# EAGLE library part LM2901 (library ic-fairchild)
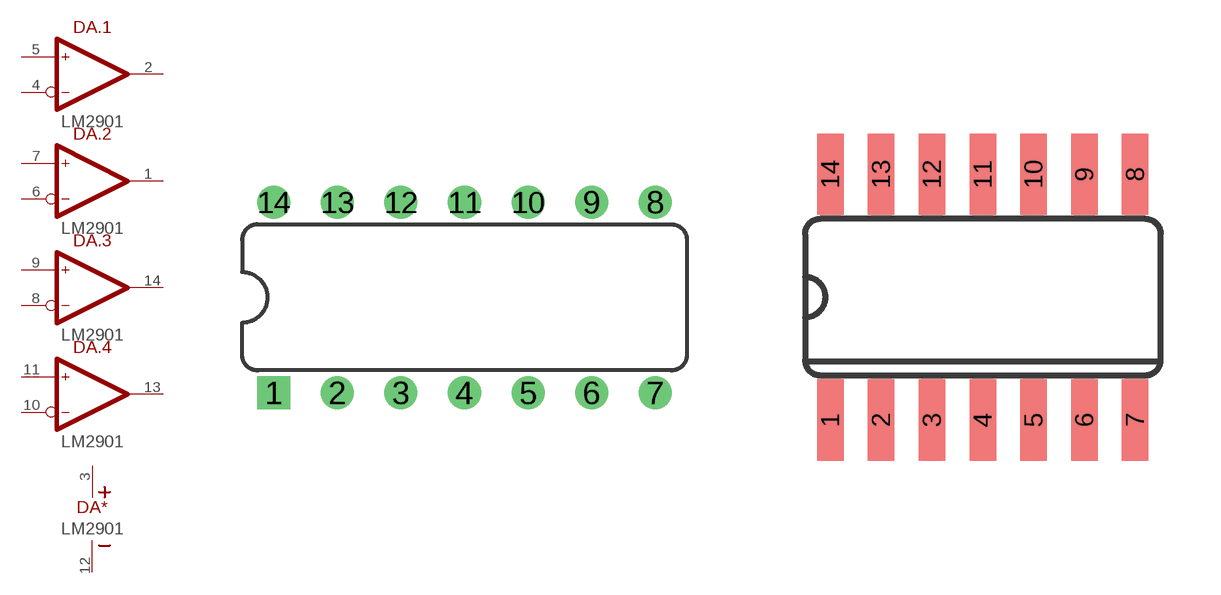
[diagram p1: symbol with the pads of DIP-14; footprints DIP-14, SO-14]

Designator prefix DA; gates .1=OPAMP .2=OPAMP .3=OPAMP .4=OPAMP *=SUPPLY

## LM2901N (MOUSER: 512-LM2901N)  [DIP-14]
1  .2:OUT  out
2  .1:OUT  out
3  *:V+  pwr
4  .1:IN-  in
5  .1:IN+  in
6  .2:IN-  in
7  .2:IN+  in
8  .3:IN-  in
9  .3:IN+  in
10  .4:IN-  in
11  .4:IN+  in
12  *:V-  pwr
13  .4:OUT  out
14  .3:OUT  out

## LM2901M (MOUSER: 512-LM2901M)  [SO-14]
Pads as for DIP-14

## Footprint DIP-14 (pad centres in mm)
drill 0.813 square: 1 -7.62,-3.81
drill 0.813: 2 -5.08,-3.81; 3 -2.54,-3.81; 4 0,-3.81; 5 2.54,-3.81; 6 5.08,-3.81; 7 7.62,-3.81; 8 7.62,3.81; 9 5.08,3.81; 10 2.54,3.81; 11 0,3.81; 12 -2.54,3.81; 13 -5.08,3.81; 14 -7.62,3.81

## Footprint SO-14 (pad centres in mm)
Small Outline package 150 mil
smd 0.66 x 2.032: 1 -3.81,-3.073; 2 -2.54,-3.073; 3 -1.27,-3.073; 4 0,-3.073; 5 1.27,-3.073; 6 2.54,-3.073; 7 3.81,-3.073; 8 3.81,3.073; 9 2.54,3.073; 10 1.27,3.073; 11 0,3.073; 12 -1.27,3.073; 13 -2.54,3.073; 14 -3.81,3.073